# EAGLE library part INA333 (library ina333)
INA333 Micro-Power (50μA), Zerø-Drift, Rail-to-Rail Out Instrumentation Amplifier The INA333 device is a low-power, precision instrumentation amplifier offering excellent accuracy. The versatile 3-operational amplifier design, small size, and low power make it ideal for a wide range of portable applications. A single external resistor sets any gain from 1 to 1000. The INA333 is designed to use an industrystandard gain equation: G = 1 + (100 kΩ / RG). The INA333 device provides very low offset voltage (25 μV, G ≥ 100), excellent offset voltage drift (0.1 μV/°C, G ≥ 100), and high common-mode rejection (100 dB at G ≥ 10). It operates with power supplies as low as 1.8 V (±0.9 V) and quiescent current is only 50 μA, making it ideal for batteryoperated systems. Using autocalibration techniques to ensure excellent precision over the extended industrial temperature range, the INA333 device also offers exceptionally low noise density (50 nV/√Hz) that extends down to DC. The INA333 device is available in both 8-pin VSSOP and WSON surface-mount packages and is specified over the TA = –40°C to +125°C temperature range.
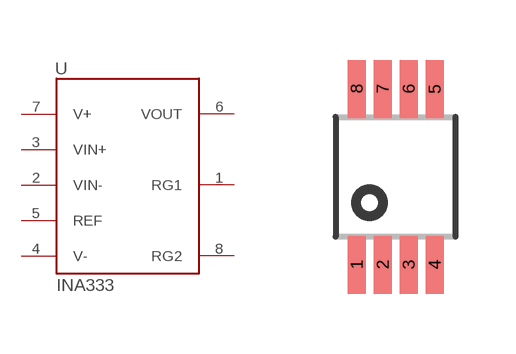
[diagram p0: symbol with the pads of MSOP8; footprint MSOP8]

Designator prefix U

## INA333  [MSOP8]
1  RG1
2  VIN-
3  VIN+
4  V-
5  REF
6  VOUT
7  V+
8  RG2

## Footprint MSOP8 (pad centres in mm)
8M, 8-Lead, 0.118" Wide, Miniature Small Outline Package MSOP 8M-Package doc1097.pdf
smd 0.45 x 1.45: 1 -0.975,-2.2; 2 -0.325,-2.2; 3 0.325,-2.2; 4 0.975,-2.2; 5 0.975,2.2; 6 0.325,2.2; 7 -0.325,2.2; 8 -0.975,2.2